# Altium footprint library WiFi_Lib.PcbLib: 36 footprints (part 3 of 3)
Each footprint in its own frame and in the unit in brackets; x right, y up, seen from the top. Pads: shape width x height; smd on the part's side, far side on the other; paste and mask are expansions set on the pad; w line width, h text height; cw(c..) or ccw(c..) is an arc to the next point about the centre after c.
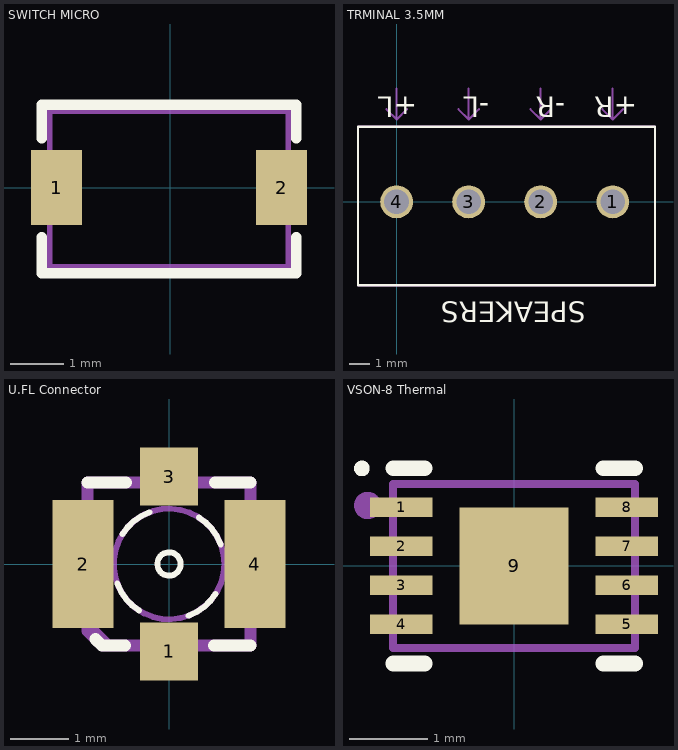
[diagram p2: the footprints below, top view; thin cyan lines are the x and y axes]

## SWITCH MICRO [mm]
pads (2):
  rect 0.95x1.4 smd: 1(-2.125,0) 2(2.075,0)
Top Overlay:
  lines w0.2: -2.4,-0.925 -2.4,-1.6 2.35,-1.6 2.35,-0.925 ; -2.4,0.925 -2.4,1.55 2.35,1.55 2.35,0.925
Mechanical 13:
  lines w0.1: -2.25,-1.475 2.2,-1.475 2.2,1.425 -2.25,1.425 -2.25,-1.475
  text "'.Designator'" at -0.675,-0.425 h1
3D body "PTS820J25MSMTRLFS.stp": height 2.05, standoff 0.05, extent -2.275,-1.475 2.225,1.425

## TRMINAL 3.5MM [mm]
pads (4):
  round 1.6 hole 1.2: 1(10.5,0) 2(7,0) 3(3.5,0) 4(0,0)
Top Overlay:
  lines w0.1: -1.875,-4.05 12.55,-4.05 12.55,3.65 -1.875,3.65 -1.875,-4.05
  text "+L" at 1,5.1 h1
  text "-L" at 4.5,5.1 h1
  text "-R" at 8.2,5.1 h1
  text "+R" at 11.7,5.1 h1
  text "SPEAKERS" at 9.2,-4.85 h1
Mechanical 13:
  lines w0.1: -0.5,4.5 0,4 ; 0,5.5 0,4 ; 0.5,4.5 0,4 ; 3,4.5 3.5,4 ; 3.5,5.5 3.5,4 ; 4,4.5 3.5,4 ; 6.5,4.5 7,4 ; 7,5.5 7,4 ; 7.5,4.5 7,4 ; 10,4.5 10.5,4 ; 10.5,5.5 10.5,4 ; 11,4.5 10.5,4 ; 0,4 0,4 ; 3.5,4 3.5,4 ; 7,4 7,4 ; 10.5,4 10.5,4 ; -1.875,-4.05 -1.875,3.65 12.55,3.65 12.55,-4.05 -1.875,-4.05
  text "'.Designator'" at 3.625,-0.4 h1
3D body "393570004.stp": height 8.51, standoff -3.51, extent -1.66,-3.865 12.31,3.425

## U.FL Connector [mm]
pads (4):
  rect 1x1 smd: 1(0,-1.5) 3(0,1.5)
  rect 1.05x2.2 smd: 2(-1.475,0) 4(1.475,0)
Top Overlay:
  circle w0.102: c0,0 r0.2
  lines w0.102: -0.888,-0.336 ccw(c-0.026,-0.023) -0.512,-0.8 ; -0.8,0.512 cw(c-0.023,0.026) -0.336,0.888 ; 0.336,-0.888 ccw(c0.023,-0.026) 0.8,-0.512 ; 0.512,0.8 cw(c0.026,0.023) 0.888,0.336
  lines w0.203: -1.4,1.4 -0.737,1.4 ; -1.262,-1.288 -1.15,-1.4 -0.75,-1.4 ; 0.775,-1.4 1.4,-1.4 ; 0.787,1.4 1.4,1.4
Mechanical 4:
  circle w0.102: c0,0 r0.95
  circle w0.102: c0,0 r0.95
  region: -0.3,-1.5 0.3,-1.5 0.3,-1.8 -0.3,-1.8
  region: -0.3,1.8 0.3,1.8 0.3,1.5 -0.3,1.5
  region: 1.35,0.9 1.8,0.9 1.8,-0.9 1.35,-0.9
  region: -1.8,0.9 -1.35,0.9 -1.35,-0.9 -1.8,-0.9
  region: -0.3,-1.5 0.3,-1.5 0.3,-1.8 -0.3,-1.8
  region: -0.3,1.8 0.3,1.8 0.3,1.5 -0.3,1.5
  region: 1.35,0.9 1.8,0.9 1.8,-0.9 1.35,-0.9
  region: -1.8,0.9 -1.35,0.9 -1.35,-0.9 -1.8,-0.9
  lines w0.203: -1.4,-1.15 -1.4,1.4 ; -1.4,-1.15 -1.15,-1.4 ; -1.4,-1.15 -1.4,1.4 ; -1.4,-1.15 -1.15,-1.4 ; -1.4,1.4 1.4,1.4 ; -1.4,1.4 1.4,1.4 ; -1.15,-1.4 1.4,-1.4 ; -1.15,-1.4 1.4,-1.4 ; 1.4,-1.4 1.4,1.4 ; 1.4,-1.4 1.4,1.4
Mechanical 13:
  lines w0.1: -1.425,-0.95 -1.425,1.4 1.375,1.4 1.375,-1.375 -1,-1.375 -1.425,-0.95
  text "'.Designator'" at -0.75,-0.375 h1
3D body "734120110.stp": height 1.3, standoff 0, extent -1.5,-1.54 1.5,1.54

## VSON-8 Thermal [mm] "VSON, 8-Leads, Body 2.00x3.00mm, Pitch 0.50mm, Thermal Pad 1.50x1.40mm, IPC Medium Density"
height 0.6
pads (9):
  rect 0.8x0.25 smd: 1(-1.445,0.75) 2(-1.445,0.25) 3(-1.445,-0.25) 4(-1.445,-0.75) 5(1.445,-0.75) 6(1.445,-0.25) 7(1.445,0.25) 8(1.445,0.75)
  rect 1.4x1.5 smd: 9(0,0)
Top Overlay:
  circle w0.1: c-1.95,1.25 r0.05
  lines w0.2: -1.55,-1.25 -1.145,-1.25 ; -1.55,1.25 -1.145,1.25 ; 1.145,-1.25 1.55,-1.25 ; 1.145,1.25 1.55,1.25
Mechanical 13:
  circle w0.2: c-1.875,0.775 r0.075
  lines w0.1: -1.55,-1.05 -1.55,1.05 1.55,1.05 1.55,-1.05 -1.55,-1.05
  text "'.Designator'" at -0.8,-0.4 h1
3D body "VSON-8 Thermal.step": height 0.6, standoff 0, extent -1.58,-1.05 1.58,1.05